# Altium schematic symbol library MCP3564R.SchLib: 1 symbol
Pins are listed as number, name and electrical type; pins without a type are passive.

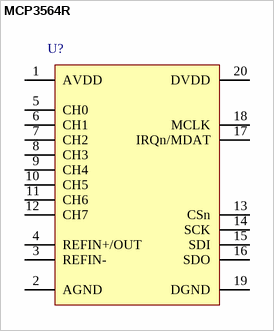
[diagram p0: symbol MCP3564R]

## MCP3564R
designator U?
pins: 1 AVDD, 2 AGND, 3 REFIN-, 4 REFIN+/OUT, 5 CH0, 6 CH1, 7 CH2, 8 CH3, 9 CH4, 10 CH5, 11 CH6, 12 CH7, 13 CSn, 14 SCK, 15 SDI, 16 SDO, 17 IRQn/MDAT, 18 MCLK, 19 DGND, 20 DVDD